# Altium footprint library Pads.PcbLib: 13 footprints
Each footprint in its own frame and in the unit in brackets; x right, y up, seen from the top. Pads: shape width x height; smd on the part's side, far side on the other; paste and mask are expansions set on the pad; w line width, h text height; cw(c..) or ccw(c..) is an arc to the next point about the centre after c.
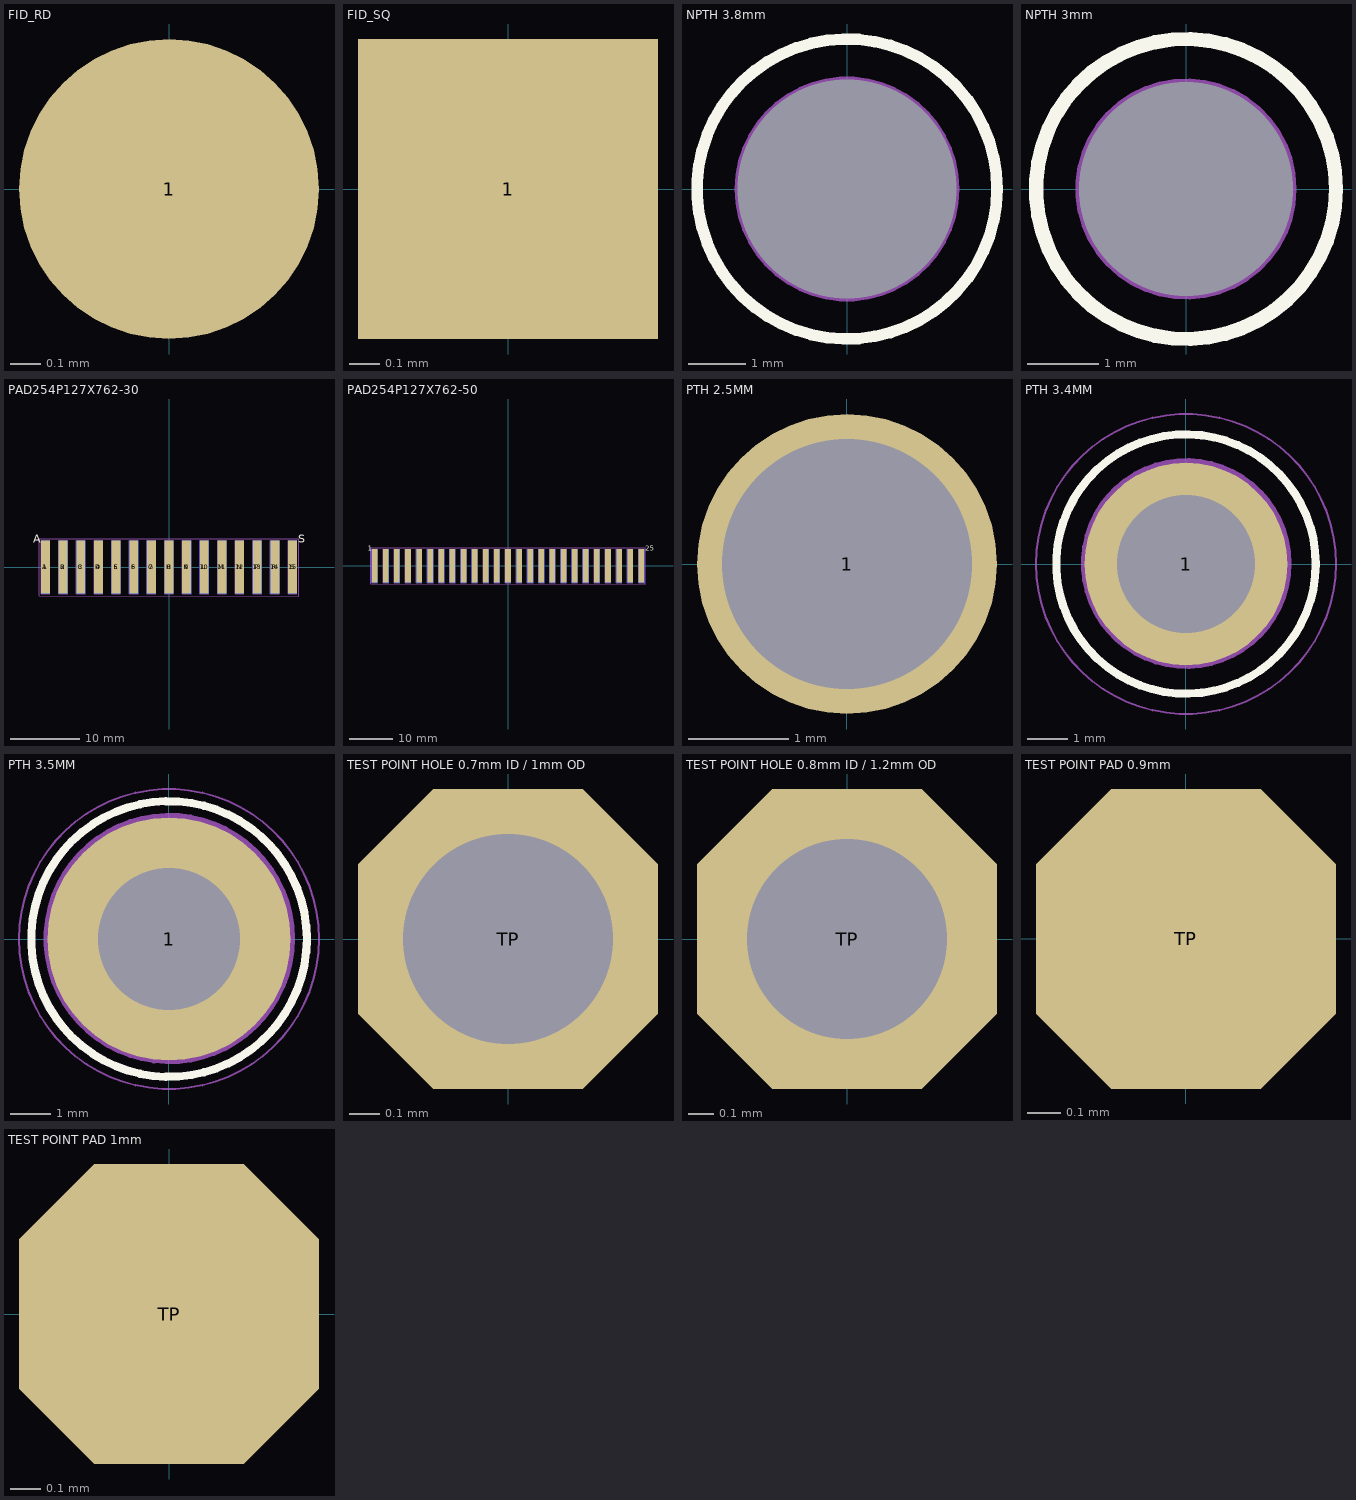
[diagram p0: the footprints below, top view; thin cyan lines are the x and y axes]

## FID_RD [mm] "PCB Fiducial Mark Round"
pads (1):
  round 1 smd paste-1000 mask+3: 1(0,0)
Top Designator (Mech15):
  text ".Designator" at -4.04,-0.476 h2

## FID_SQ [mm] "PCB Fiducial Mark Square"
pads (1):
  rect 1x1 smd paste-1000 mask+3: 1(0,0)
Top Designator (Mech15):
  text ".Designator" at -4.04,-0.476 h2

## NPTH 3.8mm [mm] "Non-Plated Through-Hole 3.8mm Diam"
pads (1):
  round 0 hole 3.8 unplated paste-1000 mask+0: NPTH(0,0)
Top Overlay:
  circle w0.2: c0,0 r2.6
Top Component Outline:
  circle w0.1: c0,0 r1.9
Top Courtyard:
  circle w0.025: c0,0 r2.6
Top Designator (Mech15):
  text "NPTH" at -1.339,-0.388 h1.5
Top Assembly:
  circle w0.1: c0,0 r1.9

## NPTH 3mm [mm] "Non-Plated Through-Hole 3mm Diam"
pads (1):
  round 0 hole 3 unplated paste-1000 mask+0: NPTH(0,0)
Top Overlay:
  circle w0.2: c0,0 r2.1
Top Component Outline:
  circle w0.1: c0,0 r1.5
Top Courtyard:
  circle w0.025: c0,0 r2.1
Top Designator (Mech15):
  text "NPTH" at -1.339,-0.388 h1.5
Top Assembly:
  circle w0.1: c0,0 r1.5

## PAD254P127X762-30 [mil] "Gold Fingers x30, pitch 2.54mm, 1.27mm W x 7.62mm H"
pads (30):
  rect 50x300 smd far side mask+0: 1(-700,0) 2(-600,0) 3(-500,0) 4(-400,0) 5(-300,0) 6(-200,0) 7(-100,0) 8(0,0) 9(100,0) 10(200,0) 11(300,0) 12(400,0) 13(500,0) 14(600,0) 15(700,0)
  rect 50x300 smd mask+0: A(-700,0) B(-600,0) C(-500,0) D(-400,0) E(-300,0) F(-200,0) G(-100,0) H(0,0) K(100,0) L(200,0) M(300,0) N(400,0) P(500,0) R(600,0) S(700,0)
Top Overlay:
  text "S" at 732.91,120.33 h78.74
  text "A" at -770.31,120.3 h78.74
Bottom Overlay:
  text "15" at 796.87,120.49 h78.74
  text "1" at -737.12,120.17 h78.74
Top Component Outline:
  lines w3.94: -725,-150 -725,150 -675,150 -675,-150 -725,-150 ; -625,-150 -625,150 -575,150 -575,-150 -625,-150 ; -525,-150 -525,150 -475,150 -475,-150 -525,-150 ; -425,-150 -425,150 -375,150 -375,-150 -425,-150 ; -325,-150 -325,150 -275,150 -275,-150 -325,-150 ; -225,-150 -225,150 -175,150 -175,-150 -225,-150 ; -125,-150 -125,150 -75,150 -75,-150 -125,-150 ; -25,-150 -25,150 25,150 25,-150 -25,-150 ; 75,-150 75,150 125,150 125,-150 75,-150 ; 175,-150 175,150 225,150 225,-150 175,-150 ; 275,-150 275,150 325,150 325,-150 275,-150 ; 375,-150 375,150 425,150 425,-150 375,-150 ; 475,-150 475,150 525,150 525,-150 475,-150 ; 575,-150 575,150 625,150 625,-150 575,-150 ; 675,-150 675,150 725,150 725,-150 675,-150
Top Courtyard:
  lines w1.97: -736.22,-161.74 -736.22,161.42 736.22,161.42 736.22,-163.97 -736.22,-161.74
Top Designator (Mech15):
  text ".Designator" at -159.05,166.31 h78.74
Bottom Component Outline:
  lines w3.94: -725,-150 -725,150 -675,150 -675,-150 -725,-150 ; -625,-150 -625,150 -575,150 -575,-150 -625,-150 ; -525,-150 -525,150 -475,150 -475,-150 -525,-150 ; -425,-150 -425,150 -375,150 -375,-150 -425,-150 ; -325,-150 -325,150 -275,150 -275,-150 -325,-150 ; -225,-150 -225,150 -175,150 -175,-150 -225,-150 ; -125,-150 -125,150 -75,150 -75,-150 -125,-150 ; -25,-150 -25,150 25,150 25,-150 -25,-150 ; 75,-150 75,150 125,150 125,-150 75,-150 ; 175,-150 175,150 225,150 225,-150 175,-150 ; 275,-150 275,150 325,150 325,-150 275,-150 ; 375,-150 375,150 425,150 425,-150 375,-150 ; 475,-150 475,150 525,150 525,-150 475,-150 ; 575,-150 575,150 625,150 625,-150 575,-150 ; 675,-150 675,150 725,150 725,-150 675,-150
Bottom Courtyard:
  lines w1.97: -736.22,-161.74 -736.22,161.42 736.22,161.42 736.22,-163.97 -736.22,-161.74
Bottom Designator:
  text ".Designator" at 159.05,166.31 h78.74

## PAD254P127X762-50 [mil] "Gold Fingers x50, pitch 2.54mm, 1.27mm W x 7.62mm H"
pads (50):
  rect 50x300 smd mask+0: 1(-1200,0) 2(-1100,0) 3(-1000,0) 4(-900,0) 5(-800,0) 6(-700,0) 7(-600,0) 8(-500,0) 9(-400,0) 10(-300,0) 11(-200,0) 12(-100,0) 13(0,0) 14(100,0) 15(200,0) 16(300,0) 17(400,0) 18(500,0) 19(600,0) 20(700,0) 21(800,0) 22(900,0) 23(1000,0) 24(1100,0) 25(1200,0)
  rect 50x300 smd far side mask+0: 26(1200,0) 27(1100,0) 28(1000,0) 29(900,0) 30(800,0) 31(700,0) 32(600,0) 33(500,0) 34(400,0) 35(300,0) 36(200,0) 37(100,0) 38(0,0) 39(-100,0) 40(-200,0) 41(-300,0) 42(-400,0) 43(-500,0) 44(-600,0) 45(-700,0) 46(-800,0) 47(-900,0) 48(-1000,0) 49(-1100,0) 50(-1200,0)
Top Overlay:
  text "1" at -1262.88,120.17 h78.74
  text "25" at 1234.74,120.27 h78.74
Bottom Overlay:
  text "26" at 1301.4,120.33 h78.74
  text "50" at -1234.22,120.33 h78.74
Top Component Outline:
  lines w3.94: -1225,-150 -1175,-150 -1175,150 -1225,150 -1225,-150 ; -1125,-150 -1075,-150 -1075,150 -1125,150 -1125,-150 ; -1025,-150 -975,-150 -975,150 -1025,150 -1025,-150 ; -925,-150 -875,-150 -875,150 -925,150 -925,-150 ; -825,-150 -775,-150 -775,150 -825,150 -825,-150 ; -725,-150 -675,-150 -675,150 -725,150 -725,-150 ; -625,-150 -575,-150 -575,150 -625,150 -625,-150 ; -525,-150 -475,-150 -475,150 -525,150 -525,-150 ; -425,-150 -375,-150 -375,150 -425,150 -425,-150 ; -325,-150 -275,-150 -275,150 -325,150 -325,-150 ; -225,-150 -175,-150 -175,150 -225,150 -225,-150 ; -125,-150 -75,-150 -75,150 -125,150 -125,-150 ; -25,-150 25,-150 25,150 -25,150 -25,-150 ; 75,-150 125,-150 125,150 75,150 75,-150 ; 175,-150 225,-150 225,150 175,150 175,-150 ; 275,-150 325,-150 325,150 275,150 275,-150 ; 375,-150 425,-150 425,150 375,150 375,-150 ; 475,-150 525,-150 525,150 475,150 475,-150 ; 575,-150 625,-150 625,150 575,150 575,-150 ; 675,-150 725,-150 725,150 675,150 675,-150 ; 775,-150 825,-150 825,150 775,150 775,-150 ; 875,-150 925,-150 925,150 875,150 875,-150 ; 975,-150 1025,-150 1025,150 975,150 975,-150 ; 1075,-150 1125,-150 1125,150 1075,150 1075,-150 ; 1175,-150 1225,-150 1225,150 1175,150 1175,-150
Top Courtyard:
  lines w1.97: -1236.22,-160.98 1236.22,-164.73 1236.22,161.42 -1236.22,161.42 -1236.22,-160.98
Top Designator (Mech15):
  text ".Designator" at -159.05,166.31 h78.74
Bottom Component Outline:
  lines w3.94: -1225,-150 -1175,-150 -1175,150 -1225,150 -1225,-150 ; -1125,-150 -1075,-150 -1075,150 -1125,150 -1125,-150 ; -1025,-150 -975,-150 -975,150 -1025,150 -1025,-150 ; -925,-150 -875,-150 -875,150 -925,150 -925,-150 ; -825,-150 -775,-150 -775,150 -825,150 -825,-150 ; -725,-150 -675,-150 -675,150 -725,150 -725,-150 ; -625,-150 -575,-150 -575,150 -625,150 -625,-150 ; -525,-150 -475,-150 -475,150 -525,150 -525,-150 ; -425,-150 -375,-150 -375,150 -425,150 -425,-150 ; -325,-150 -275,-150 -275,150 -325,150 -325,-150 ; -225,-150 -175,-150 -175,150 -225,150 -225,-150 ; -125,-150 -75,-150 -75,150 -125,150 -125,-150 ; -25,-150 25,-150 25,150 -25,150 -25,-150 ; 75,-150 125,-150 125,150 75,150 75,-150 ; 175,-150 225,-150 225,150 175,150 175,-150 ; 275,-150 325,-150 325,150 275,150 275,-150 ; 375,-150 425,-150 425,150 375,150 375,-150 ; 475,-150 525,-150 525,150 475,150 475,-150 ; 575,-150 625,-150 625,150 575,150 575,-150 ; 675,-150 725,-150 725,150 675,150 675,-150 ; 775,-150 825,-150 825,150 775,150 775,-150 ; 875,-150 925,-150 925,150 875,150 875,-150 ; 975,-150 1025,-150 1025,150 975,150 975,-150 ; 1075,-150 1125,-150 1125,150 1075,150 1075,-150 ; 1175,-150 1225,-150 1225,150 1175,150 1175,-150
Bottom Courtyard:
  lines w1.97: -1236.22,-160.98 1236.22,-164.73 1236.22,161.42 -1236.22,161.42 -1236.22,-160.98
Bottom Designator:
  text ".Designator" at 159.05,166.31 h78.74

## PTH 2.5MM [mm] "Plated Through Hole 2.5mm Diam"
pads (1):
  round 3 hole 2.5 paste-1000 mask+0.05: 1(0,0)
Top Component Outline:
  text "PTH" at -1.365,-0.597 h2
Bottom Component Outline:
  text "PTH" at -1.365,-0.597 h2

## PTH 3.4MM [mm] "Plated Through Hole 3.4mm Diam"
height 2.38
pads (1):
  round 5 hole 3.4 paste-1000 mask+0.05: 1(0,0)
Top Overlay:
  circle w0.2: c0,0 r3.2
Bottom Overlay:
  circle w0.2: c0.025,0 r3.2
Top Component Outline:
  circle w0.2: c0,0 r1.7
  circle w0.2: c0.006,0.012 r2.5
  text "PTH" at -1.365,-0.597 h2
Top Courtyard:
  circle w0.05: c0,0 r3.7
Top Designator (Mech15):
  text ".Designator" at -4.04,-0.476 h2
Top Assembly:
  circle w0.2: c0,0 r1.7
Bottom Component Outline:
  circle w0.2: c0,0 r1.7
  circle w0.2: c0.006,0.012 r2.5
  text "PTH" at -1.365,-0.597 h2
Bottom Courtyard:
  circle w0.05: c0,0 r3.7
Bottom Assembly:
  circle w0.2: c0,0 r1.7
3D body "REV Robotics-REV-41-1361.step": height -1.62, standoff -5.62, extent -2.75,-3.175 2.75,3.175
3D body "M3x0_5xL Phillips Panhead Screw.step": height 2.38, standoff -6, extent -2.8,-2.789 2.8,2.789

## PTH 3.5MM [mm] "Plated Through Hole 3.5mm Diam"
height 2.38
pads (1):
  round 6 hole 3.5 paste-1000 mask+0.05: 1(0,0)
Top Overlay:
  circle w0.2: c0,0 r3.4
Bottom Overlay:
  circle w0.2: c0.025,0 r3.4
Top Component Outline:
  circle w0.2: c0,0 r1.8
  circle w0.2: c0.006,0.012 r3
  text "PTH" at -1.365,-0.597 h2
Top Courtyard:
  circle w0.05: c0,0 r3.7
Top Designator (Mech15):
  text ".Designator" at -4.04,-0.476 h2
Top Assembly:
  circle w0.2: c0,0 r1.8
Bottom Component Outline:
  circle w0.2: c0,0 r1.8
  circle w0.2: c0.006,0.012 r3
  text "PTH" at -1.365,-0.597 h2
Bottom Courtyard:
  circle w0.05: c0,0 r3.7
Bottom Assembly:
  circle w0.2: c0,0 r1.8
3D body "REV Robotics-REV-41-1361.step": height -1.62, standoff -5.62, extent -2.75,-3.175 2.75,3.175
3D body "M3x0_5xL Phillips Panhead Screw.step": height 2.38, standoff -6, extent -2.8,-2.789 2.8,2.789

## TEST POINT HOLE 0.7mm ID / 1mm OD [mm] "PCB Test Point"
pads (1):
  oct 1x1 hole 0.7 paste-1000 mask+0.05: TP(0,0)

## TEST POINT HOLE 0.8mm ID / 1.2mm OD [mm] "PCB Test Point"
pads (1):
  oct 1.2x1.2 hole 0.8 paste-1000 mask+0.05: TP(0,0)

## TEST POINT PAD 0.9mm [mm] "PCB Test Point"
pads (1):
  oct 0.9x0.9 smd paste+0 mask+0.05: TP(0,0)

## TEST POINT PAD 1mm [mm] "PCB Test Point"
pads (1):
  oct 1x1 smd paste+0 mask+0.05: TP(0,0)